# Altium footprint library AA.PcbLib: 3 footprints
Each footprint in its own frame and in the unit in brackets; x right, y up, seen from the top. Pads: shape width x height; smd on the part's side, far side on the other; paste and mask are expansions set on the pad; w line width, h text height; cw(c..) or ccw(c..) is an arc to the next point about the centre after c.
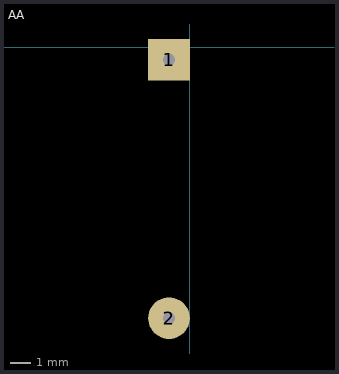
[diagram p0: the footprints below, top view; thin cyan lines are the x and y axes]

## AA [mm]
pads (2):
  rect 2x2 hole 0.6: 1(-1,-0.6)
  round 2 hole 0.6: 2(-1,-13)
3D body: height 12.38, standoff -0.62, extent -3.427,-18.923 49.376,5.577

## PCBComponent_1 [mm]

## PCBComponent_1 - duplicate [mm]
3D body: height 26.79, standoff -26.01, extent 0,-6.373 24.5,6.627